# EAGLE library part 687110183622 (library Eagle_FPC_CONNECTOR_AND_FFC_CAB (rev18c))
687110183622 WR-FPC 0.50mm SMT Horizontal Top Contact - Low Profile <http://katalog.we-online.de/media/images/v2/Family_WR-FPC_6871xx183622.jpg> Details see: http://katalog.we-online.de/en/em/FPC_0_5_SMT_ZIF_HORIZONTAL_TOP_CONTACT_LOW_PROFILE_6871xx183622 Created by Yingchun,shan 2016 (C) Wurth Elektronik
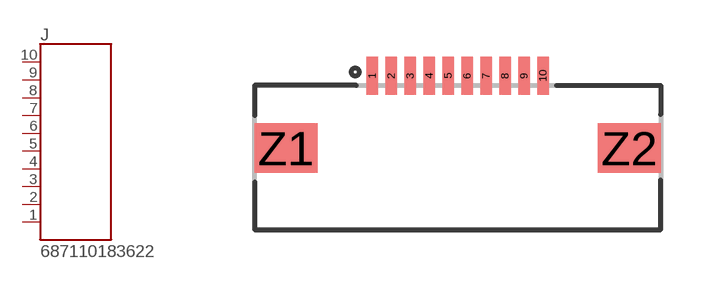
[diagram p177: symbol with the pads of 687110183622; footprint 687110183622]

Designator prefix J

## 687110183622  [687110183622]
1  10  pas
2  9  pas
3  8  pas
4  7  pas
5  6  pas
6  5  pas
7  4  pas
8  3  pas
9  2  pas
10  1  pas

## Footprint 687110183622 (pad centres in mm)
smd 0.3 x 1: 1 -2.25,1.9; 2 -1.75,1.9; 3 -1.25,1.9; 4 -0.75,1.9; 5 -0.25,1.9; 6 0.25,1.9; 7 0.75,1.9; 8 1.25,1.9; 9 1.75,1.9; 10 2.25,1.9
smd 1.65 x 1.3: Z1 -4.525,0; Z2 4.525,0